# EAGLE library part HY2120 (library CanCubeSat)
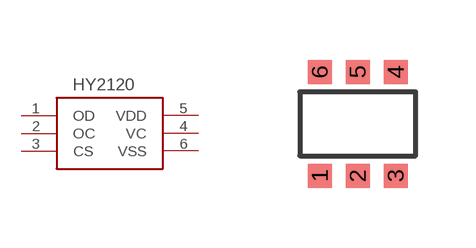
[diagram p0: symbol with the pads of SOT23-6; footprint SOT23-6]

Designator prefix -

## HY2120  [SOT23-6]
1  OD
2  OC
3  CS
4  VC
5  VDD
6  VSS

## Footprint SOT23-6 (pad centres in mm)
smd 0.6 x 0.6: 1 -0.95,-1.3; 2 0,-1.3; 3 0.95,-1.3; 4 0.95,1.3; 5 0,1.3; 6 -0.95,1.3